# Altium schematic symbol library MySchLib.SchLib: 9 symbols
Pins are listed as number, name and electrical type; pins without a type are passive.

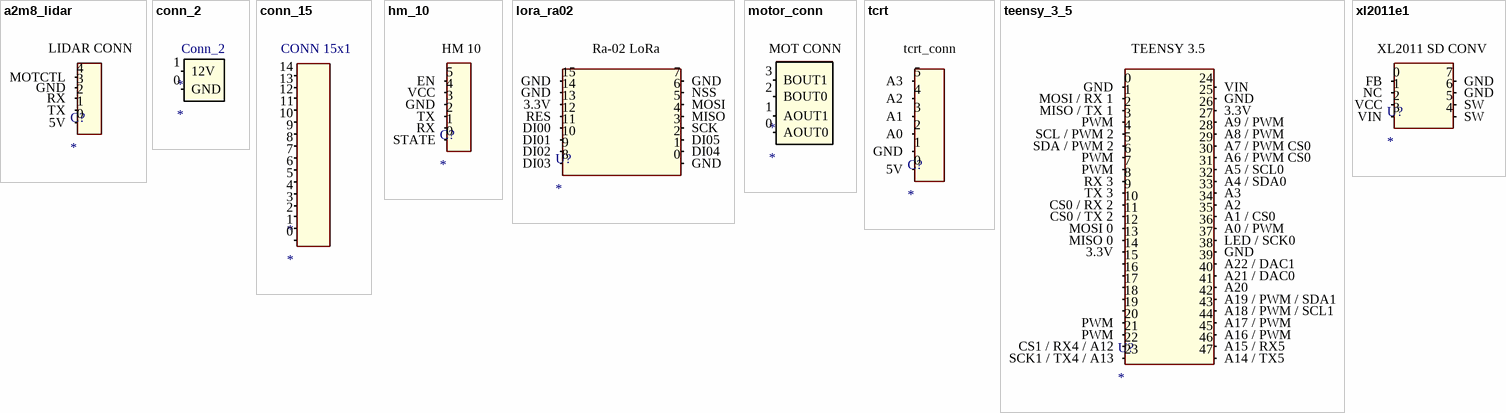
[diagram p0: symbols a2m8_lidar to xl2011e1]

## a2m8_lidar
designator C?
footprint PCBComponent_1
footprint PCBComponent_1
pins: 0 5V, 1 TX, 2 RX, 3 GND, 4 MOTCTL
text: LIDAR CONN

## conn_2
designator *
footprint conn_2
pins: 0 GND, 1 12V
text: Conn_2

## conn_15
designator *
footprint PCBComponent_1
pins: 0, 1, 2, 3, 4, 5, 6, 7, 8, 9, 10, 11, 12, 13, 14
text: CONN 15x1

## hm_10
designator C?
footprint PCBComponent_1
pins: 0 STATE, 1 RX, 2 TX, 3 GND, 4 VCC, 5 EN
text: HM 10

## lora_ra02
designator U?
footprint PCBComponent_1
pins: 0 GND, 1 DI04, 2 DI05, 3 SCK, 4 MISO, 5 MOSI, 6 NSS, 7 GND, 8 DI03, 9 DI02, 10 DI01, 11 DI00, 12 RES, 13 3.3V, 14 GND, 15 GND
text: Ra-02 LoRa

## motor_conn
designator *
footprint PCBComponent_1
pins: 0 AOUT0, 1 AOUT1, 2 BOUT0, 3 BOUT1
text: MOT CONN

## tcrt
designator C?
footprint PCBComponent_1
footprint PCBComponent_1
pins: 0 5V, 1 GND, 2 A0, 3 A1, 4 A2, 5 A3
text: tcrt_conn

## teensy_3_5
designator U?
footprint PCBComponent_1
pins: 0 GND, 1 MOSI / RX 1, 2 MISO / TX 1, 3 PWM, 4 SCL / PWM 2, 5 SDA / PWM 2, 6 PWM, 7 PWM, 8 RX 3, 9 TX 3, 10 CS0 / RX 2, 11 CS0 / TX 2, 12 MOSI 0, 13 MISO 0, 14 3.3V, 15, 16, 17, 18, 19, 20 PWM, 21 PWM, 22 CS1 / RX4 / A12, 23 SCK1 / TX4 / A13, 24 VIN, 25 GND, 26 3.3V, 27 A9 / PWM, 28 A8 / PWM, 29 A7 / PWM CS0, 30 A6 / PWM CS0, 31 A5 / SCL0, 32 A4 / SDA0, 33 A3, 34 A2, 35 A1 / CS0, 36 A0 / PWM, 37 LED / SCK0, 38 GND, 39 A22 / DAC1, 40 A21 / DAC0, 41 A20, 42 A19 / PWM / SDA1, 43 A18 / PWM / SCL1, 44 A17 / PWM, 45 A16 / PWM, 46 A15 / RX5, 47 A14 / TX5
text: TEENSY 3.5

## xl2011e1
designator U?
footprint PCBComponent_1
pins: 0 FB, 1 NC, 2 VCC, 3 VIN, 4 SW, 5 SW, 6 GND, 7 GND
text: XL2011 SD CONV